# EAGLE library part PREC06X1 (library con-pinheader-precision)
female precision header
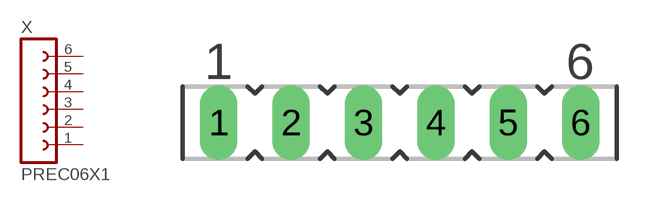
[diagram p35: symbol with the pads of PREC06X1-2.54; footprint PREC06X1-2.54]

Designator prefix X

## PREC06X1-2.54MM (OC_FARNELL: unknown; OC_NEWARK: unknown)  [PREC06X1-2.54]
1  1  pas
2  2  pas
3  3  pas
4  4  pas
5  5  pas
6  6  pas

## Footprint PREC06X1-2.54 (pad centres in mm)
female precision header
drill 0.813 long: 1 -6.35,0; 2 -3.81,0; 3 -1.27,0; 4 1.27,0; 5 3.81,0; 6 6.35,0